# Altium integrated library IRFP260N.IntLib: 1 symbol
Pins are listed as number, name and electrical type; pins without a type are passive.

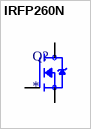
[diagram p0: symbol IRFP260N]

## IRFP260N
designator Q?
N-Channel 200V 50A (Tc) 300W (Tc) Through Hole TO-247AC; MP: IRFP260N; MF: Infineon Technologies; Check_prices: https://www.snapeda.com/parts/IRFP260N/Infineon%20Technologies/view-part/2777552/?ref=eda; SnapEDA_Link: https://www.snapeda.com/parts/IRFP260N/Infineon%20Technologies/view-part/2777552/?ref=snap; Availability: Unavailable; Value: *; Price: None; Package: TO-247-3 Infineon Technologies
footprint TO545P1560X500X2460-3
pins: 1 G, 2 D, 3 S